# Altium integrated library Texas Instruments Power Management PWM Controller.IntLib: 1227 symbols (part 27 of 49)
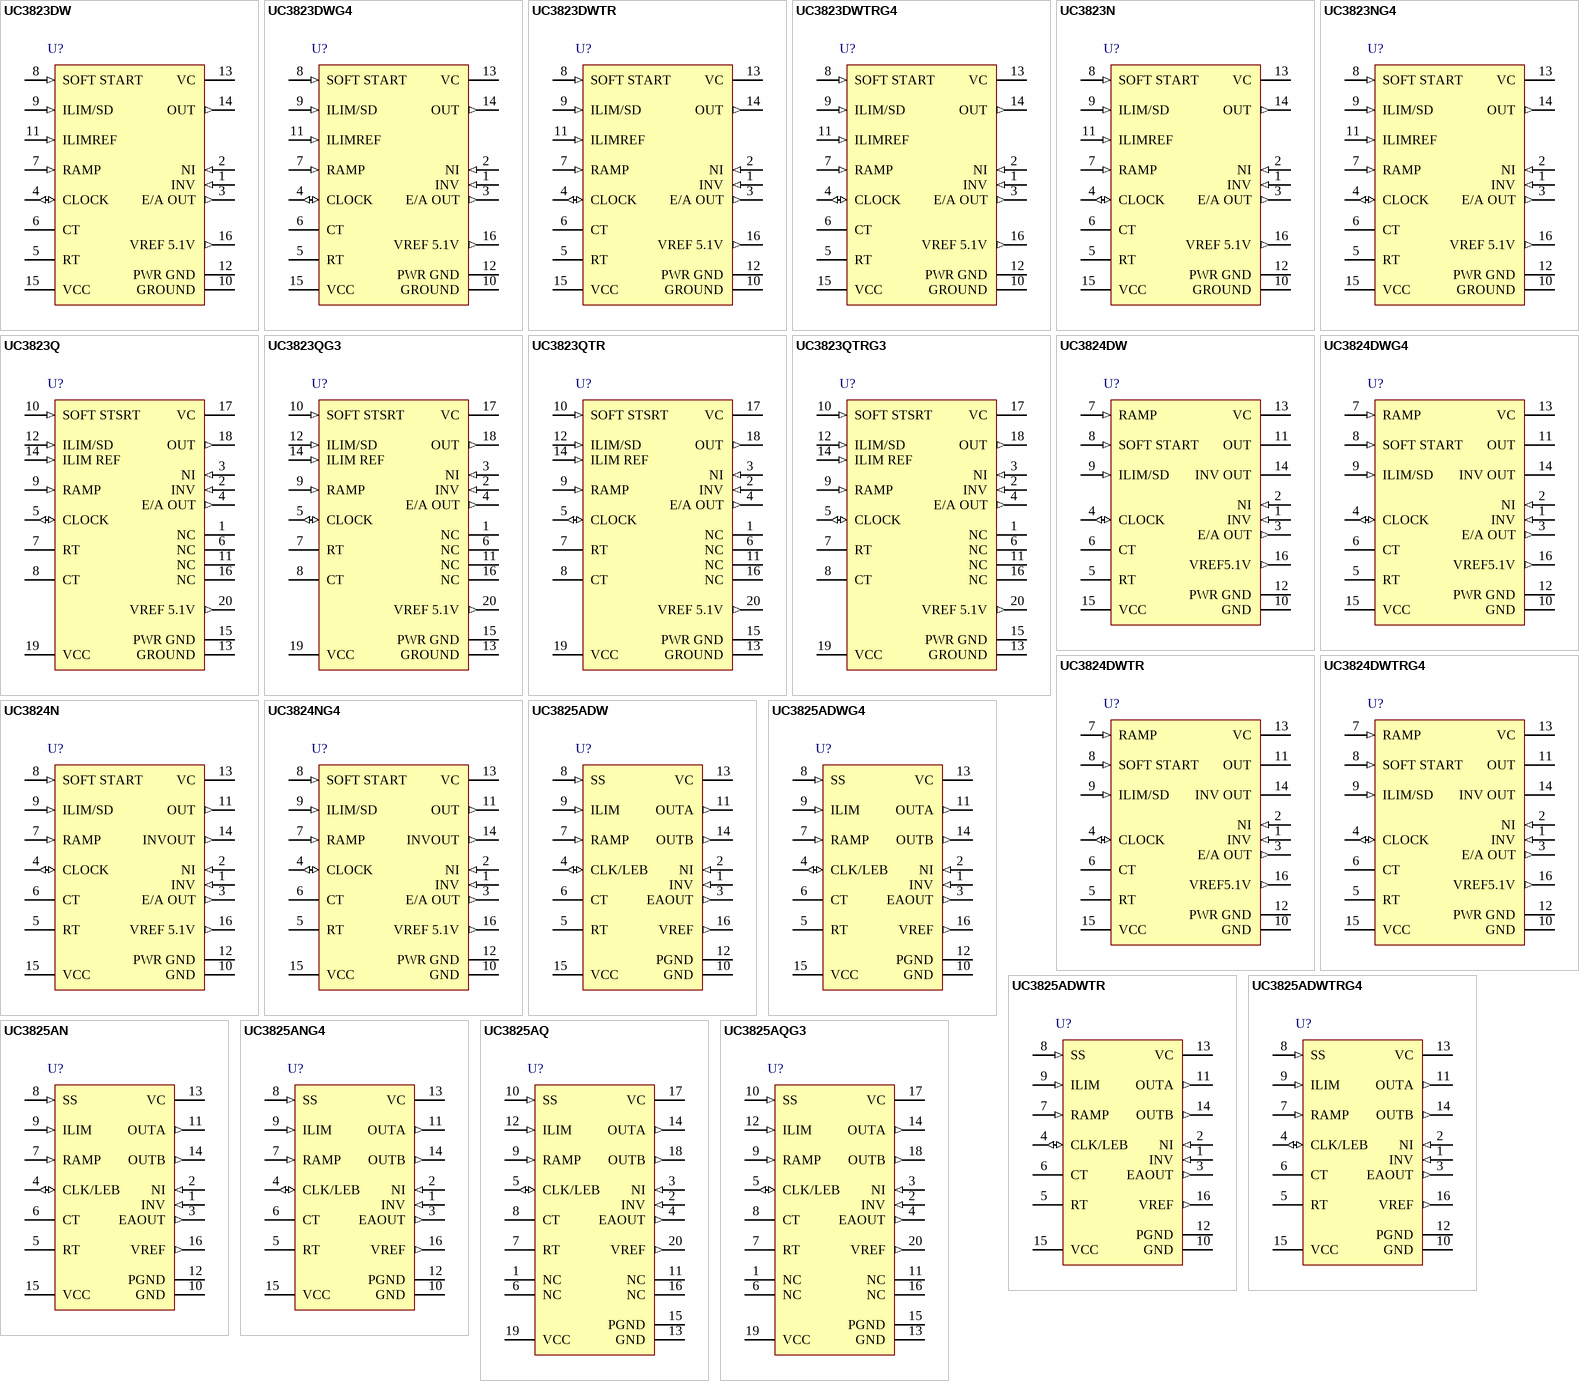
[diagram p69: symbols UC3823DW to UC3825AQG3]

## UC3823DW
designator U?
High Speed PWM Controller with Current, Voltage Control, 100 % Duty Cycle, 0 to +70 degC, 16-pin SOIC (DW), Green (RoHS & no Sb/Br); PartNumber: UC3823DW; Manufacturer: Texas Instruments; Duty Cycle(Max)(%): 100; Frequency(Max)(kHz): 1000; Rating: Catalog; Regulated Outputs(#): 1; Topology: Boost, Buck, Flyback, Forward; UVLO Thresholds On/Off(V): 9.2/8.4; DatasheetVersion: SLUS219B; PackageVersion: revG, Jan-2011; PackageReference: DW16; PackageDescription: 16-Pin Small Outline Integrated Circuit, 10.3 x 7.5 mm, Pitch 1.27 mm Pitch; Supplier 1: Digi-Key; Supplier Part Number 1: 296-11263-5-ND; Supplier 2: Newark; Supplier Part Number 2: 97B1232; Supplier 3: Mouser; Supplier Part Number 3: 595-UC3823DW; Control Method: Current, Voltage; Eco-Plan: Green (RoHS & no Sb/Br); SubFamily: PWM Controller; Mounting Technology: Surface Mount; Code_JEDEC: MS-013-AA; ComponentLink1Description: Datasheet; ComponentLink1URL: http://www.ti.com/general/docs/lit/getliterature.tsp?genericPartNumber=UC3823&fileType=pdf
footprint DW16_N (SOIC, 16-Leads, Body 10.3x7.5mm, Pitch 1.27mm, IPC Medium Density)
footprint DW16_L (SOIC, 16-Leads, Body 10.3x7.5mm, Pitch 1.27mm, IPC High Density)
footprint DW16_M (SOIC, 16-Leads, Body 10.3x7.5mm, Pitch 1.27mm, IPC Low Density)
pins: 1 INV (in), 2 NI (in), 3 E/A OUT (out), 4 CLOCK (io), 5 RT, 6 CT, 7 RAMP (in), 8 SOFT START (in), 9 ILIM/SD (in), 10 GROUND (power), 11 ILIMREF (in), 12 PWR GND (power), 13 VC (power), 14 OUT (out), 15 VCC (power), 16 VREF 5.1V (out)

## UC3823DWG4
designator U?
High Speed PWM Controller with Current, Voltage Control, 100 % Duty Cycle, 0 to +70 degC, 16-pin SOIC (DW), Green (RoHS & no Sb/Br); PartNumber: UC3823DWG4; Manufacturer: Texas Instruments; Duty Cycle(Max)(%): 100; Frequency(Max)(kHz): 1000; Rating: Catalog; Regulated Outputs(#): 1; Topology: Boost, Buck, Flyback, Forward; UVLO Thresholds On/Off(V): 9.2/8.4; DatasheetVersion: SLUS219B; PackageVersion: revG, Jan-2011; PackageReference: DW16; PackageDescription: 16-Pin Small Outline Integrated Circuit, 10.3 x 7.5 mm, Pitch 1.27 mm Pitch; Supplier 1: Digi-Key; Supplier Part Number 1: UC3823DWG4-ND; Supplier 2: Newark; Supplier Part Number 2: 99K4491; Supplier 3: Mouser; Supplier Part Number 3: 595-UC3823DWG4; Control Method: Current, Voltage; Eco-Plan: Green (RoHS & no Sb/Br); SubFamily: PWM Controller; Mounting Technology: Surface Mount; Code_JEDEC: MS-013-AA; ComponentLink1Description: Datasheet; ComponentLink1URL: http://www.ti.com/general/docs/lit/getliterature.tsp?genericPartNumber=UC3823&fileType=pdf
footprint DW16_N (SOIC, 16-Leads, Body 10.3x7.5mm, Pitch 1.27mm, IPC Medium Density)
footprint DW16_L (SOIC, 16-Leads, Body 10.3x7.5mm, Pitch 1.27mm, IPC High Density)
footprint DW16_M (SOIC, 16-Leads, Body 10.3x7.5mm, Pitch 1.27mm, IPC Low Density)
pins: 1 INV (in), 2 NI (in), 3 E/A OUT (out), 4 CLOCK (io), 5 RT, 6 CT, 7 RAMP (in), 8 SOFT START (in), 9 ILIM/SD (in), 10 GROUND (power), 11 ILIMREF (in), 12 PWR GND (power), 13 VC (power), 14 OUT (out), 15 VCC (power), 16 VREF 5.1V (out)

## UC3823DWTR
designator U?
High Speed PWM Controller with Current, Voltage Control, 100 % Duty Cycle, 0 to +70 degC, 16-pin SOIC (DW), Green (RoHS & no Sb/Br); PartNumber: UC3823DWTR; Manufacturer: Texas Instruments; Duty Cycle(Max)(%): 100; Frequency(Max)(kHz): 1000; Rating: Catalog; Regulated Outputs(#): 1; Topology: Boost, Buck, Flyback, Forward; UVLO Thresholds On/Off(V): 9.2/8.4; DatasheetVersion: SLUS219B; PackageVersion: revG, Jan-2011; PackageReference: DW16; PackageDescription: 16-Pin Small Outline Integrated Circuit, 10.3 x 7.5 mm, Pitch 1.27 mm Pitch; Supplier 1: Digi-Key; Supplier Part Number 1: UC3823DWTR-ND; Supplier 2: Newark; Supplier Part Number 2: 77C3241; Supplier 3: Mouser; Supplier Part Number 3: 595-UC3823DWTR; Control Method: Current, Voltage; Eco-Plan: Green (RoHS & no Sb/Br); SubFamily: PWM Controller; Mounting Technology: Surface Mount; Code_JEDEC: MS-013-AA; ComponentLink1Description: Datasheet; ComponentLink1URL: http://www.ti.com/general/docs/lit/getliterature.tsp?genericPartNumber=UC3823&fileType=pdf
footprint DW16_N (SOIC, 16-Leads, Body 10.3x7.5mm, Pitch 1.27mm, IPC Medium Density)
footprint DW16_L (SOIC, 16-Leads, Body 10.3x7.5mm, Pitch 1.27mm, IPC High Density)
footprint DW16_M (SOIC, 16-Leads, Body 10.3x7.5mm, Pitch 1.27mm, IPC Low Density)
pins: 1 INV (in), 2 NI (in), 3 E/A OUT (out), 4 CLOCK (io), 5 RT, 6 CT, 7 RAMP (in), 8 SOFT START (in), 9 ILIM/SD (in), 10 GROUND (power), 11 ILIMREF (in), 12 PWR GND (power), 13 VC (power), 14 OUT (out), 15 VCC (power), 16 VREF 5.1V (out)

## UC3823DWTRG4
designator U?
High Speed PWM Controller with Current, Voltage Control, 100 % Duty Cycle, 0 to +70 degC, 16-pin SOIC (DW), Green (RoHS & no Sb/Br); PartNumber: UC3823DWTRG4; Manufacturer: Texas Instruments; Duty Cycle(Max)(%): 100; Frequency(Max)(kHz): 1000; Rating: Catalog; Regulated Outputs(#): 1; Topology: Boost, Buck, Flyback, Forward; UVLO Thresholds On/Off(V): 9.2/8.4; DatasheetVersion: SLUS219B; PackageVersion: revG, Jan-2011; PackageReference: DW16; PackageDescription: 16-Pin Small Outline Integrated Circuit, 10.3 x 7.5 mm, Pitch 1.27 mm Pitch; Supplier 1: Digi-Key; Supplier Part Number 1: UC3823DWTRG4-ND; Supplier 2: Newark; Supplier Part Number 2: 63K6731; Supplier 3: Mouser; Supplier Part Number 3: 595-UC3823DWTRG4; Control Method: Current, Voltage; Eco-Plan: Green (RoHS & no Sb/Br); SubFamily: PWM Controller; Mounting Technology: Surface Mount; Code_JEDEC: MS-013-AA; ComponentLink1Description: Datasheet; ComponentLink1URL: http://www.ti.com/general/docs/lit/getliterature.tsp?genericPartNumber=UC3823&fileType=pdf
footprint DW16_N (SOIC, 16-Leads, Body 10.3x7.5mm, Pitch 1.27mm, IPC Medium Density)
footprint DW16_L (SOIC, 16-Leads, Body 10.3x7.5mm, Pitch 1.27mm, IPC High Density)
footprint DW16_M (SOIC, 16-Leads, Body 10.3x7.5mm, Pitch 1.27mm, IPC Low Density)
pins: 1 INV (in), 2 NI (in), 3 E/A OUT (out), 4 CLOCK (io), 5 RT, 6 CT, 7 RAMP (in), 8 SOFT START (in), 9 ILIM/SD (in), 10 GROUND (power), 11 ILIMREF (in), 12 PWR GND (power), 13 VC (power), 14 OUT (out), 15 VCC (power), 16 VREF 5.1V (out)

## UC3823N
designator U?
High Speed PWM Controller with Current, Voltage Control, 100 % Duty Cycle, 0 to +70 degC, 16-pin PDIP (N), Green (RoHS & no Sb/Br); PartNumber: UC3823N; Manufacturer: Texas Instruments; Duty Cycle(Max)(%): 100; Frequency(Max)(kHz): 1000; Rating: Catalog; Regulated Outputs(#): 1; Topology: Boost, Buck, Flyback, Forward; UVLO Thresholds On/Off(V): 9.2/8.4; DatasheetVersion: SLUS219B; PackageVersion: revE, Dec-2002; PackageReference: N16; PackageDescription: 16-Pin Plastic Dual-In-Line Package, Row Spacing 7.62 mm, Pitch 2.54 mm; Supplier 1: Digi-Key; Supplier Part Number 1: 296-11653-5-ND; Supplier 2: Farnell; Supplier Part Number 2: 1534740; Supplier 3: Newark; Supplier Part Number 3: 77C3242; Supplier 4: Mouser; Supplier Part Number 4: 595-UC3823N; Control Method: Current, Voltage; Eco-Plan: Green (RoHS & no Sb/Br); SubFamily: PWM Controller; Mounting Technology: Through Hole; Code_JEDEC: MS-001*; ComponentLink1Description: Datasheet; ComponentLink1URL: http://www.ti.com/general/docs/lit/getliterature.tsp?genericPartNumber=UC3823&fileType=pdf
footprint N16 (DIP, 16-Leads, Row Spacing 7.62mm, Pitch 2.54mm, Body 19.3x6.4mm)
pins: 1 INV (in), 2 NI (in), 3 E/A OUT (out), 4 CLOCK (io), 5 RT, 6 CT, 7 RAMP (in), 8 SOFT START (in), 9 ILIM/SD (in), 10 GROUND (power), 11 ILIMREF (in), 12 PWR GND (power), 13 VC (power), 14 OUT (out), 15 VCC (power), 16 VREF 5.1V (out)

## UC3823NG4
designator U?
High Speed PWM Controller with Current, Voltage Control, 100 % Duty Cycle, 0 to +70 degC, 16-pin PDIP (N), Green (RoHS & no Sb/Br); PartNumber: UC3823NG4; Manufacturer: Texas Instruments; Duty Cycle(Max)(%): 100; Frequency(Max)(kHz): 1000; Rating: Catalog; Regulated Outputs(#): 1; Topology: Boost, Buck, Flyback, Forward; UVLO Thresholds On/Off(V): 9.2/8.4; DatasheetVersion: SLUS219B; PackageVersion: revE, Dec-2002; PackageReference: N16; PackageDescription: 16-Pin Plastic Dual-In-Line Package, Row Spacing 7.62 mm, Pitch 2.54 mm; Supplier 1: Digi-Key; Supplier Part Number 1: UC3823NG4-ND; Supplier 2: Farnell; Supplier Part Number 2: 1234764; Supplier 3: Newark; Supplier Part Number 3: 13M3401; Supplier 4: Newark; Supplier Part Number 4: 80K3540; Supplier 5: Mouser; Supplier Part Number 5: 595-UC3823NG4; Control Method: Current, Voltage; Eco-Plan: Green (RoHS & no Sb/Br); SubFamily: PWM Controller; Mounting Technology: Through Hole; Code_JEDEC: MS-001*; ComponentLink1Description: Datasheet; ComponentLink1URL: http://www.ti.com/general/docs/lit/getliterature.tsp?genericPartNumber=UC3823&fileType=pdf
footprint N16 (DIP, 16-Leads, Row Spacing 7.62mm, Pitch 2.54mm, Body 19.3x6.4mm)
pins: 1 INV (in), 2 NI (in), 3 E/A OUT (out), 4 CLOCK (io), 5 RT, 6 CT, 7 RAMP (in), 8 SOFT START (in), 9 ILIM/SD (in), 10 GROUND (power), 11 ILIMREF (in), 12 PWR GND (power), 13 VC (power), 14 OUT (out), 15 VCC (power), 16 VREF 5.1V (out)

## UC3823Q
designator U?
High Speed PWM Controller with Current, Voltage Control, 100 % Duty Cycle, 0 to +70 degC, 20-pin PLCC (FN), Green (RoHS & no Sb/Br); PartNumber: UC3823Q; Manufacturer: Texas Instruments; Duty Cycle(Max)(%): 100; Frequency(Max)(kHz): 1000; Rating: Catalog; Regulated Outputs(#): 1; Topology: Boost, Buck, Flyback, Forward; UVLO Thresholds On/Off(V): 9.2/8.4; DatasheetVersion: SLUS219B; PackageVersion: revB, Mar-1995; PackageReference: FN20; PackageDescription: 20-Pin Plastic Leaded Chip Carrier, 1.27 mm Pitch; Supplier 1: Digi-Key; Supplier Part Number 1: 296-11264-5-ND; Supplier 2: Newark; Supplier Part Number 2: 77C3243; Supplier 3: Mouser; Supplier Part Number 3: 595-UC3823Q; Control Method: Current, Voltage; Eco-Plan: Green (RoHS & no Sb/Br); SubFamily: PWM Controller; Mounting Technology: Surface Mount; Code_JEDEC: MS-018; ComponentLink1Description: Datasheet; ComponentLink1URL: http://www.ti.com/general/docs/lit/getliterature.tsp?genericPartNumber=UC3823&fileType=pdf
footprint FN20_N (Leaded Chip Carrier, 20-Leads, Body 9x9mm, Pitch 1.27mm, IPC Medium Density)
footprint FN20_L (Leaded Chip Carrier, 20-Leads, Body 9x9mm, Pitch 1.27mm, IPC High Density)
footprint FN20_M (Leaded Chip Carrier, 20-Leads, Body 9x9mm, Pitch 1.27mm, IPC Low Density)
pins: 1 NC, 2 INV (in), 3 NI (in), 4 E/A OUT (out), 5 CLOCK (io), 6 NC, 7 RT, 8 CT, 9 RAMP (in), 10 SOFT STSRT (in), 11 NC, 12 ILIM/SD (in), 13 GROUND (power), 14 ILIM REF (in), 15 PWR GND (power), 16 NC, 17 VC (power), 18 OUT (out), 19 VCC (power), 20 VREF 5.1V (out)

## UC3823QG3
designator U?
High Speed PWM Controller with Current, Voltage Control, 100 % Duty Cycle, 0 to +70 degC, 20-pin PLCC (FN), Green (RoHS & no Sb/Br); PartNumber: UC3823QG3; Manufacturer: Texas Instruments; Duty Cycle(Max)(%): 100; Frequency(Max)(kHz): 1000; Rating: Catalog; Regulated Outputs(#): 1; Topology: Boost, Buck, Flyback, Forward; UVLO Thresholds On/Off(V): 9.2/8.4; DatasheetVersion: SLUS219B; PackageVersion: revB, Mar-1995; PackageReference: FN20; PackageDescription: 20-Pin Plastic Leaded Chip Carrier, 1.27 mm Pitch; Supplier 1: Digi-Key; Supplier Part Number 1: UC3823QG3-ND; Supplier 2: Newark; Supplier Part Number 2: 70K6008; Supplier 3: Mouser; Supplier Part Number 3: 595-UC3823QG3; Control Method: Current, Voltage; Eco-Plan: Green (RoHS & no Sb/Br); SubFamily: PWM Controller; Mounting Technology: Surface Mount; Code_JEDEC: MS-018; ComponentLink1Description: Datasheet; ComponentLink1URL: http://www.ti.com/general/docs/lit/getliterature.tsp?genericPartNumber=UC3823&fileType=pdf
footprint FN20_N (Leaded Chip Carrier, 20-Leads, Body 9x9mm, Pitch 1.27mm, IPC Medium Density)
footprint FN20_L (Leaded Chip Carrier, 20-Leads, Body 9x9mm, Pitch 1.27mm, IPC High Density)
footprint FN20_M (Leaded Chip Carrier, 20-Leads, Body 9x9mm, Pitch 1.27mm, IPC Low Density)
pins: 1 NC, 2 INV (in), 3 NI (in), 4 E/A OUT (out), 5 CLOCK (io), 6 NC, 7 RT, 8 CT, 9 RAMP (in), 10 SOFT STSRT (in), 11 NC, 12 ILIM/SD (in), 13 GROUND (power), 14 ILIM REF (in), 15 PWR GND (power), 16 NC, 17 VC (power), 18 OUT (out), 19 VCC (power), 20 VREF 5.1V (out)

## UC3823QTR
designator U?
High Speed PWM Controller with Current, Voltage Control, 100 % Duty Cycle, 0 to +70 degC, 20-pin PLCC (FN), Green (RoHS & no Sb/Br); PartNumber: UC3823QTR; Manufacturer: Texas Instruments; Duty Cycle(Max)(%): 100; Frequency(Max)(kHz): 1000; Rating: Catalog; Regulated Outputs(#): 1; Topology: Boost, Buck, Flyback, Forward; UVLO Thresholds On/Off(V): 9.2/8.4; DatasheetVersion: SLUS219B; PackageVersion: revB, Mar-1995; PackageReference: FN20; PackageDescription: 20-Pin Plastic Leaded Chip Carrier, 1.27 mm Pitch; Supplier 1: Digi-Key; Supplier Part Number 1: UC3823QTR-ND; Supplier 2: Newark; Supplier Part Number 2: 77C3244; Supplier 3: Mouser; Supplier Part Number 3: 595-UC3823QTR; Control Method: Current, Voltage; Eco-Plan: Green (RoHS & no Sb/Br); SubFamily: PWM Controller; Mounting Technology: Surface Mount; Code_JEDEC: MS-018; ComponentLink1Description: Datasheet; ComponentLink1URL: http://www.ti.com/general/docs/lit/getliterature.tsp?genericPartNumber=UC3823&fileType=pdf
footprint FN20_N (Leaded Chip Carrier, 20-Leads, Body 9x9mm, Pitch 1.27mm, IPC Medium Density)
footprint FN20_L (Leaded Chip Carrier, 20-Leads, Body 9x9mm, Pitch 1.27mm, IPC High Density)
footprint FN20_M (Leaded Chip Carrier, 20-Leads, Body 9x9mm, Pitch 1.27mm, IPC Low Density)
pins: 1 NC, 2 INV (in), 3 NI (in), 4 E/A OUT (out), 5 CLOCK (io), 6 NC, 7 RT, 8 CT, 9 RAMP (in), 10 SOFT STSRT (in), 11 NC, 12 ILIM/SD (in), 13 GROUND (power), 14 ILIM REF (in), 15 PWR GND (power), 16 NC, 17 VC (power), 18 OUT (out), 19 VCC (power), 20 VREF 5.1V (out)

## UC3823QTRG3
designator U?
High Speed PWM Controller with Current, Voltage Control, 100 % Duty Cycle, 0 to +70 degC, 20-pin PLCC (FN), Green (RoHS & no Sb/Br); PartNumber: UC3823QTRG3; Manufacturer: Texas Instruments; Duty Cycle(Max)(%): 100; Frequency(Max)(kHz): 1000; Rating: Catalog; Regulated Outputs(#): 1; Topology: Boost, Buck, Flyback, Forward; UVLO Thresholds On/Off(V): 9.2/8.4; DatasheetVersion: SLUS219B; PackageVersion: revB, Mar-1995; PackageReference: FN20; PackageDescription: 20-Pin Plastic Leaded Chip Carrier, 1.27 mm Pitch; Supplier 1: Digi-Key; Supplier Part Number 1: UC3823QTRG3-ND; Supplier 2: Newark; Supplier Part Number 2: 70K6009; Supplier 3: Mouser; Supplier Part Number 3: 595-UC3823QTRG3; Control Method: Current,Voltage; Eco-Plan: Green (RoHS & no Sb/Br); SubFamily: PWM Controller; Mounting Technology: Surface Mount; Code_JEDEC: MS-018; ComponentLink1Description: Datasheet; ComponentLink1URL: http://www.ti.com/general/docs/lit/getliterature.tsp?genericPartNumber=UC3823&fileType=pdf
footprint FN20_N (Leaded Chip Carrier, 20-Leads, Body 9x9mm, Pitch 1.27mm, IPC Medium Density)
footprint FN20_L (Leaded Chip Carrier, 20-Leads, Body 9x9mm, Pitch 1.27mm, IPC High Density)
footprint FN20_M (Leaded Chip Carrier, 20-Leads, Body 9x9mm, Pitch 1.27mm, IPC Low Density)
pins: 1 NC, 2 INV (in), 3 NI (in), 4 E/A OUT (out), 5 CLOCK (io), 6 NC, 7 RT, 8 CT, 9 RAMP (in), 10 SOFT STSRT (in), 11 NC, 12 ILIM/SD (in), 13 GROUND (power), 14 ILIM REF (in), 15 PWR GND (power), 16 NC, 17 VC (power), 18 OUT (out), 19 VCC (power), 20 VREF 5.1V (out)

## UC3824DW
designator U?
High Speed PWM Controller with Current, Voltage Control, 100 % Duty Cycle, 0 to +70 degC, 16-pin SOIC (DW), Green (RoHS & no Sb/Br); PartNumber: UC3824DW; Manufacturer: Texas Instruments; Duty Cycle(Max)(%): 100; Frequency(Max)(kHz): 1000; Rating: Catalog; Regulated Outputs(#): 2; Topology: Boost, Buck; UVLO Thresholds On/Off(V): 9.2/8.4; DatasheetVersion: SLUS326A; PackageVersion: revG, Jan-2011; PackageReference: DW16; PackageDescription: 16-Pin Small Outline Integrated Circuit, 10.3 x 7.5 mm, Pitch 1.27 mm Pitch; Supplier 1: Digi-Key; Supplier Part Number 1: 296-11265-5-ND; Supplier 2: Newark; Supplier Part Number 2: 77C3245; Supplier 3: Mouser; Supplier Part Number 3: 595-UC3824DW; Control Method: Current, Voltage; Eco-Plan: Green (RoHS & no Sb/Br); SubFamily: PWM Controller; Mounting Technology: Surface Mount; Code_JEDEC: MS-013-AA; ComponentLink1Description: Datasheet; ComponentLink1URL: http://www.ti.com/general/docs/lit/getliterature.tsp?genericPartNumber=UC3824&fileType=pdf
footprint DW16_N (SOIC, 16-Leads, Body 10.3x7.5mm, Pitch 1.27mm, IPC Medium Density)
footprint DW16_L (SOIC, 16-Leads, Body 10.3x7.5mm, Pitch 1.27mm, IPC High Density)
footprint DW16_M (SOIC, 16-Leads, Body 10.3x7.5mm, Pitch 1.27mm, IPC Low Density)
pins: 1 INV (in), 2 NI (in), 3 E/A OUT (out), 4 CLOCK (io), 5 RT, 6 CT, 7 RAMP (in), 8 SOFT START (in), 9 ILIM/SD (in), 10 GND (power), 11 OUT (hiz), 12 PWR GND (power), 13 VC (power), 14 INV OUT (hiz), 15 VCC (power), 16 VREF5.1V (out)

## UC3824DWG4
designator U?
High Speed PWM Controller with Current, Voltage Control, 100 % Duty Cycle, 0 to +70 degC, 16-pin SOIC (DW), Green (RoHS & no Sb/Br); PartNumber: UC3824DWG4; Manufacturer: Texas Instruments; Duty Cycle(Max)(%): 100; Frequency(Max)(kHz): 1000; Rating: Catalog; Regulated Outputs(#): 2; Topology: Boost, Buck; UVLO Thresholds On/Off(V): 9.2/8.4; DatasheetVersion: SLUS326A; PackageVersion: revG, Jan-2011; PackageReference: DW16; PackageDescription: 16-Pin Small Outline Integrated Circuit, 10.3 x 7.5 mm, Pitch 1.27 mm Pitch; Supplier 1: Digi-Key; Supplier Part Number 1: UC3824DWG4-ND; Supplier 2: Newark; Supplier Part Number 2: 63K6732; Supplier 3: Mouser; Supplier Part Number 3: 595-UC3824DWG4; Control Method: Current, Voltage; Eco-Plan: Green (RoHS & no Sb/Br); SubFamily: PWM Controller; Mounting Technology: Surface Mount; Code_JEDEC: MS-013-AA; ComponentLink1Description: Datasheet; ComponentLink1URL: http://www.ti.com/general/docs/lit/getliterature.tsp?genericPartNumber=UC3824&fileType=pdf
footprint DW16_N (SOIC, 16-Leads, Body 10.3x7.5mm, Pitch 1.27mm, IPC Medium Density)
footprint DW16_L (SOIC, 16-Leads, Body 10.3x7.5mm, Pitch 1.27mm, IPC High Density)
footprint DW16_M (SOIC, 16-Leads, Body 10.3x7.5mm, Pitch 1.27mm, IPC Low Density)
pins: 1 INV (in), 2 NI (in), 3 E/A OUT (out), 4 CLOCK (io), 5 RT, 6 CT, 7 RAMP (in), 8 SOFT START (in), 9 ILIM/SD (in), 10 GND (power), 11 OUT (hiz), 12 PWR GND (power), 13 VC (power), 14 INV OUT (hiz), 15 VCC (power), 16 VREF5.1V (out)

## UC3824DWTR
designator U?
High Speed PWM Controller with Current, Voltage Control, 100 % Duty Cycle, 0 to +70 degC, 16-pin SOIC (DW), Green (RoHS & no Sb/Br); PartNumber: UC3824DWTR; Manufacturer: Texas Instruments; Duty Cycle(Max)(%): 100; Frequency(Max)(kHz): 1000; Rating: Catalog; Regulated Outputs(#): 2; Topology: Boost, Buck; UVLO Thresholds On/Off(V): 9.2/8.4; DatasheetVersion: SLUS326A; PackageVersion: revG, Jan-2011; PackageReference: DW16; PackageDescription: 16-Pin Small Outline Integrated Circuit, 10.3 x 7.5 mm, Pitch 1.27 mm Pitch; Supplier 1: Digi-Key; Supplier Part Number 1: UC3824DWTR-ND; Supplier 2: Newark; Supplier Part Number 2: 77C3246; Supplier 3: Mouser; Supplier Part Number 3: 595-UC3824DWTR; Control Method: Current, Voltage; Eco-Plan: Green (RoHS & no Sb/Br); SubFamily: PWM Controller; Mounting Technology: Surface Mount; Code_JEDEC: MS-013-AA; ComponentLink1Description: Datasheet; ComponentLink1URL: http://www.ti.com/general/docs/lit/getliterature.tsp?genericPartNumber=UC3824&fileType=pdf
footprint DW16_N (SOIC, 16-Leads, Body 10.3x7.5mm, Pitch 1.27mm, IPC Medium Density)
footprint DW16_L (SOIC, 16-Leads, Body 10.3x7.5mm, Pitch 1.27mm, IPC High Density)
footprint DW16_M (SOIC, 16-Leads, Body 10.3x7.5mm, Pitch 1.27mm, IPC Low Density)
pins: 1 INV (in), 2 NI (in), 3 E/A OUT (out), 4 CLOCK (io), 5 RT, 6 CT, 7 RAMP (in), 8 SOFT START (in), 9 ILIM/SD (in), 10 GND (power), 11 OUT (hiz), 12 PWR GND (power), 13 VC (power), 14 INV OUT (hiz), 15 VCC (power), 16 VREF5.1V (out)

## UC3824DWTRG4
designator U?
High Speed PWM Controller with Current, Voltage Control, 100 % Duty Cycle, 0 to +70 degC, 16-pin SOIC (DW), Green (RoHS & no Sb/Br); PartNumber: UC3824DWTRG4; Manufacturer: Texas Instruments; Duty Cycle(Max)(%): 100; Frequency(Max)(kHz): 1000; Rating: Catalog; Regulated Outputs(#): 2; Topology: Boost, Buck; UVLO Thresholds On/Off(V): 9.2/8.4; DatasheetVersion: SLUS326A; PackageVersion: revG, Jan-2011; PackageReference: DW16; PackageDescription: 16-Pin Small Outline Integrated Circuit, 10.3 x 7.5 mm, Pitch 1.27 mm Pitch; Supplier 1: Digi-Key; Supplier Part Number 1: UC3824DWTRG4-ND; Supplier 2: Newark; Supplier Part Number 2: 63K6733; Supplier 3: Mouser; Supplier Part Number 3: 595-UC3824DWTRG4; Control Method: Current, Voltage; Eco-Plan: Green (RoHS & no Sb/Br); SubFamily: PWM Controller; Mounting Technology: Surface Mount; Code_JEDEC: MS-013-AA; ComponentLink1Description: Datasheet; ComponentLink1URL: http://www.ti.com/general/docs/lit/getliterature.tsp?genericPartNumber=UC3824&fileType=pdf
footprint DW16_N (SOIC, 16-Leads, Body 10.3x7.5mm, Pitch 1.27mm, IPC Medium Density)
footprint DW16_L (SOIC, 16-Leads, Body 10.3x7.5mm, Pitch 1.27mm, IPC High Density)
footprint DW16_M (SOIC, 16-Leads, Body 10.3x7.5mm, Pitch 1.27mm, IPC Low Density)
pins: 1 INV (in), 2 NI (in), 3 E/A OUT (out), 4 CLOCK (io), 5 RT, 6 CT, 7 RAMP (in), 8 SOFT START (in), 9 ILIM/SD (in), 10 GND (power), 11 OUT (hiz), 12 PWR GND (power), 13 VC (power), 14 INV OUT (hiz), 15 VCC (power), 16 VREF5.1V (out)

## UC3824N
designator U?
High Speed PWM Controller with Current, Voltage Control, 100 % Duty Cycle, 0 to +70 degC, 16-pin PDIP (N), Green (RoHS & no Sb/Br); PartNumber: UC3824N; Manufacturer: Texas Instruments; Duty Cycle(Max)(%): 100; Frequency(Max)(kHz): 1000; Rating: Catalog; Regulated Outputs(#): 2; Topology: Boost, Buck; UVLO Thresholds On/Off(V): 9.2/8.4; DatasheetVersion: SLUS326A; PackageVersion: revE, Dec-2002; PackageReference: N16; PackageDescription: 16-Pin Plastic Dual-In-Line Package, Row Spacing 7.62 mm, Pitch 2.54 mm; Supplier 1: Digi-Key; Supplier Part Number 1: 296-11266-5-ND; Supplier 2: Newark; Supplier Part Number 2: 70C5715; Supplier 3: Mouser; Supplier Part Number 3: 595-UC3824N; Control Method: Current, Voltage; Eco-Plan: Green (RoHS & no Sb/Br); SubFamily: PWM Controller; Mounting Technology: Through Hole; Code_JEDEC: MS-001*; ComponentLink1Description: Datasheet; ComponentLink1URL: http://www.ti.com/general/docs/lit/getliterature.tsp?genericPartNumber=UC3824&fileType=pdf
footprint N16 (DIP, 16-Leads, Row Spacing 7.62mm, Pitch 2.54mm, Body 19.3x6.4mm)
pins: 1 INV (in), 2 NI (in), 3 E/A OUT (out), 4 CLOCK (io), 5 RT, 6 CT, 7 RAMP (in), 8 SOFT START (in), 9 ILIM/SD (in), 10 GND (power), 11 OUT (out), 12 PWR GND (power), 13 VC (power), 14 INVOUT (out), 15 VCC (power), 16 VREF 5.1V (out)

## UC3824NG4
designator U?
High Speed PWM Controller with Current, Voltage Control, 100 % Duty Cycle, 0 to +70 degC, 16-pin PDIP (N), Green (RoHS & no Sb/Br); PartNumber: UC3824NG4; Manufacturer: Texas Instruments; Duty Cycle(Max)(%): 100; Frequency(Max)(kHz): 1000; Rating: Catalog; Regulated Outputs(#): 2; Topology: Boost, Buck; UVLO Thresholds On/Off(V): 9.2/8.4; DatasheetVersion: SLUS326A; PackageVersion: revE, Dec-2002; PackageReference: N16; PackageDescription: 16-Pin Plastic Dual-In-Line Package, Row Spacing 7.62 mm, Pitch 2.54 mm; Supplier 1: Digi-Key; Supplier Part Number 1: UC3824NG4-ND; Supplier 2: Newark; Supplier Part Number 2: 66K4920; Supplier 3: Mouser; Supplier Part Number 3: 595-UC3824NG4; Control Method: Current,Voltage; Eco-Plan: Green (RoHS & no Sb/Br); SubFamily: PWM Controller; Mounting Technology: Through Hole; Code_JEDEC: MS-001*; ComponentLink1Description: Datasheet; ComponentLink1URL: http://www.ti.com/general/docs/lit/getliterature.tsp?genericPartNumber=UC3824&fileType=pdf
footprint N16 (DIP, 16-Leads, Row Spacing 7.62mm, Pitch 2.54mm, Body 19.3x6.4mm)
pins: 1 INV (in), 2 NI (in), 3 E/A OUT (out), 4 CLOCK (io), 5 RT, 6 CT, 7 RAMP (in), 8 SOFT START (in), 9 ILIM/SD (in), 10 GND (power), 11 OUT (out), 12 PWR GND (power), 13 VC (power), 14 INVOUT (out), 15 VCC (power), 16 VREF 5.1V (out)

## UC3825ADW
designator U?
High-Speed PWM Controller with Current, Voltage Control, 50 % Duty Cycle, 0 to +70 degC, 16-pin SOIC (DW), Green (RoHS & no Sb/Br); PartNumber: UC3825ADW; Manufacturer: Texas Instruments; Duty Cycle(Max)(%): 50; Frequency(Max)(kHz): 1000; Rating: Catalog; Regulated Outputs(#): 2; Topology: Boost, Buck, Flyback, Forward, Full-Bridge, Half-Bridge, Push-Pull; UVLO Thresholds On/Off(V): 16/10; DatasheetVersion: SLUS334E; PackageVersion: revG, Jan-2011; PackageReference: DW16; PackageDescription: 16-Pin Small Outline Integrated Circuit, 10.3 x 7.5 mm, Pitch 1.27 mm Pitch; Supplier 1: Digi-Key; Supplier Part Number 1: 296-2517-5-ND; Supplier 2: Farnell; Supplier Part Number 2: 8462410; Supplier 3: Newark; Supplier Part Number 3: 77C3247; Supplier 4: Mouser; Supplier Part Number 4: 595-UC3825ADW; Control Method: Current, Voltage; Eco-Plan: Green (RoHS & no Sb/Br); SubFamily: PWM Controller; Mounting Technology: Surface Mount; Code_JEDEC: MS-013-AA; ComponentLink1Description: Datasheet; ComponentLink1URL: http://www.ti.com/general/docs/lit/getliterature.tsp?genericPartNumber=UC3825A&fileType=pdf
footprint DW16_N (SOIC, 16-Leads, Body 10.3x7.5mm, Pitch 1.27mm, IPC Medium Density)
footprint DW16_L (SOIC, 16-Leads, Body 10.3x7.5mm, Pitch 1.27mm, IPC High Density)
footprint DW16_M (SOIC, 16-Leads, Body 10.3x7.5mm, Pitch 1.27mm, IPC Low Density)
pins: 1 INV (in) "Inverting input to the error amplifier", 2 NI (in) "Non-inverting input to the error amplifier", 3 EAOUT (out) "Output of the error amplifier for compensation", 4 CLK/LEB (io) "Output of the internal oscillator", 5 RT "Timing resistor connection pin for oscillator frequency programming", 6 CT "Timing capacitor connection pin for oscillator frequency programming. The timing capacitor should be connected to the device ground using minimal trace length.", 7 RAMP (in) "Non-inverting input to the PWM comparator with 1.25-V internal input offset. In voltage mode operation, this serves as the input voltage feed-forward function by using the CT ramp. In peak current mode operation, this serves (See Datasheet)", 8 SS (in) "Soft-start input pin which also doubles as the maximum duty cycle clamp.", 9 ILIM (in) "Input to the current limit comparator", 10 GND (power) "Analog ground return pin", 11 OUTA (out) "High current totem pole output A of the on-chip drive stage.", 12 PGND (power) "Ground return pin for the output driver stage", 13 VC (power) "Power supply pin for the output stage. This pin should be bypassed with a 0.1-uF monolithic ceramic low ESL capacitor with minimal trace lengths.", 14 OUTB (out) "High current totem pole output B of the on-chip drive stage.", 15 VCC (power) "Power supply pin for the device. This pin should be bypassed with a 0.1-uF monolithic ceramic low ESL capacitor with minimal trace lengths", 16 VREF (out) "5.1-V reference. For stability, the reference should be bypassed with a 0.1-uF monolithic ceramic low ESL capacitor and minimal trace length to the ground plane."

## UC3825ADWG4
designator U?
High-Speed PWM Controller with Current, Voltage Control, 50 % Duty Cycle, 0 to +70 degC, 16-pin SOIC (DW), Green (RoHS & no Sb/Br); PartNumber: UC3825ADWG4; Manufacturer: Texas Instruments; Duty Cycle(Max)(%): 50; Frequency(Max)(kHz): 1000; Rating: Catalog; Regulated Outputs(#): 2; Topology: Boost, Buck, Flyback, Forward, Full-Bridge, Half-Bridge, Push-Pull; UVLO Thresholds On/Off(V): 16/10; DatasheetVersion: SLUS334E; PackageVersion: revG, Jan-2011; PackageReference: DW16; PackageDescription: 16-Pin Small Outline Integrated Circuit, 10.3 x 7.5 mm, Pitch 1.27 mm Pitch; Supplier 1: Digi-Key; Supplier Part Number 1: UC3825ADWG4-ND; Supplier 2: Newark; Supplier Part Number 2: 73K9705; Supplier 3: Mouser; Supplier Part Number 3: 595-UC3825ADWG4; Control Method: Current, Voltage; Eco-Plan: Green (RoHS & no Sb/Br); SubFamily: PWM Controller; Mounting Technology: Surface Mount; Code_JEDEC: MS-013-AA; ComponentLink1Description: Datasheet; ComponentLink1URL: http://www.ti.com/general/docs/lit/getliterature.tsp?genericPartNumber=UC3825A&fileType=pdf
footprint DW16_N (SOIC, 16-Leads, Body 10.3x7.5mm, Pitch 1.27mm, IPC Medium Density)
footprint DW16_L (SOIC, 16-Leads, Body 10.3x7.5mm, Pitch 1.27mm, IPC High Density)
footprint DW16_M (SOIC, 16-Leads, Body 10.3x7.5mm, Pitch 1.27mm, IPC Low Density)
pins: 1 INV (in) "Inverting input to the error amplifier", 2 NI (in) "Non-inverting input to the error amplifier", 3 EAOUT (out) "Output of the error amplifier for compensation", 4 CLK/LEB (io) "Output of the internal oscillator", 5 RT "Timing resistor connection pin for oscillator frequency programming", 6 CT "Timing capacitor connection pin for oscillator frequency programming. The timing capacitor should be connected to the device ground using minimal trace length.", 7 RAMP (in) "Non-inverting input to the PWM comparator with 1.25-V internal input offset. In voltage mode operation, this serves as the input voltage feed-forward function by using the CT ramp. In peak current mode operation, this serves (See Datasheet)", 8 SS (in) "Soft-start input pin which also doubles as the maximum duty cycle clamp.", 9 ILIM (in) "Input to the current limit comparator", 10 GND (power) "Analog ground return pin", 11 OUTA (out) "High current totem pole output A of the on-chip drive stage.", 12 PGND (power) "Ground return pin for the output driver stage", 13 VC (power) "Power supply pin for the output stage. This pin should be bypassed with a 0.1-uF monolithic ceramic low ESL capacitor with minimal trace lengths.", 14 OUTB (out) "High current totem pole output B of the on-chip drive stage.", 15 VCC (power) "Power supply pin for the device. This pin should be bypassed with a 0.1-uF monolithic ceramic low ESL capacitor with minimal trace lengths", 16 VREF (out) "5.1-V reference. For stability, the reference should be bypassed with a 0.1-uF monolithic ceramic low ESL capacitor and minimal trace length to the ground plane."

## UC3825ADWTR
designator U?
High-Speed PWM Controller with Current, Voltage Control, 50 % Duty Cycle, 0 to +70 degC, 16-pin SOIC (DW), Green (RoHS & no Sb/Br); PartNumber: UC3825ADWTR; Manufacturer: Texas Instruments; Duty Cycle(Max)(%): 50; Frequency(Max)(kHz): 1000; Rating: Catalog; Regulated Outputs(#): 2; Topology: Boost, Buck, Flyback, Forward, Full-Bridge, Half-Bridge, Push-Pull; UVLO Thresholds On/Off(V): 16/10; DatasheetVersion: SLUS334E; PackageVersion: revG, Jan-2011; PackageReference: DW16; PackageDescription: 16-Pin Small Outline Integrated Circuit, 10.3 x 7.5 mm, Pitch 1.27 mm Pitch; Supplier 1: Digi-Key; Supplier Part Number 1: UC3825ADWTR-ND; Supplier 2: Newark; Supplier Part Number 2: 77C3248; Supplier 3: Mouser; Supplier Part Number 3: 595-UC3825ADWTR; Control Method: Current, Voltage; Eco-Plan: Green (RoHS & no Sb/Br); SubFamily: PWM Controller; Mounting Technology: Surface Mount; Code_JEDEC: MS-013-AA; ComponentLink1Description: Datasheet; ComponentLink1URL: http://www.ti.com/general/docs/lit/getliterature.tsp?genericPartNumber=UC3825A&fileType=pdf
footprint DW16_N (SOIC, 16-Leads, Body 10.3x7.5mm, Pitch 1.27mm, IPC Medium Density)
footprint DW16_L (SOIC, 16-Leads, Body 10.3x7.5mm, Pitch 1.27mm, IPC High Density)
footprint DW16_M (SOIC, 16-Leads, Body 10.3x7.5mm, Pitch 1.27mm, IPC Low Density)
pins: 1 INV (in) "Inverting input to the error amplifier", 2 NI (in) "Non-inverting input to the error amplifier", 3 EAOUT (out) "Output of the error amplifier for compensation", 4 CLK/LEB (io) "Output of the internal oscillator", 5 RT "Timing resistor connection pin for oscillator frequency programming", 6 CT "Timing capacitor connection pin for oscillator frequency programming. The timing capacitor should be connected to the device ground using minimal trace length.", 7 RAMP (in) "Non-inverting input to the PWM comparator with 1.25-V internal input offset. In voltage mode operation, this serves as the input voltage feed-forward function by using the CT ramp. In peak current mode operation, this serves (See Datasheet)", 8 SS (in) "Soft-start input pin which also doubles as the maximum duty cycle clamp.", 9 ILIM (in) "Input to the current limit comparator", 10 GND (power) "Analog ground return pin", 11 OUTA (out) "High current totem pole output A of the on-chip drive stage.", 12 PGND (power) "Ground return pin for the output driver stage", 13 VC (power) "Power supply pin for the output stage. This pin should be bypassed with a 0.1-uF monolithic ceramic low ESL capacitor with minimal trace lengths.", 14 OUTB (out) "High current totem pole output B of the on-chip drive stage.", 15 VCC (power) "Power supply pin for the device. This pin should be bypassed with a 0.1-uF monolithic ceramic low ESL capacitor with minimal trace lengths", 16 VREF (out) "5.1-V reference. For stability, the reference should be bypassed with a 0.1-uF monolithic ceramic low ESL capacitor and minimal trace length to the ground plane."

## UC3825ADWTRG4
designator U?
High-Speed PWM Controller with Current, Voltage Control, 50 % Duty Cycle, 0 to +70 degC, 16-pin SOIC (DW), Green (RoHS & no Sb/Br); PartNumber: UC3825ADWTRG4; Manufacturer: Texas Instruments; Duty Cycle(Max)(%): 50; Frequency(Max)(kHz): 1000; Rating: Catalog; Regulated Outputs(#): 2; Topology: Boost, Buck, Flyback, Forward, Full-Bridge, Half-Bridge, Push-Pull; UVLO Thresholds On/Off(V): 16/10; DatasheetVersion: SLUS334E; PackageVersion: revG, Jan-2011; PackageReference: DW16; PackageDescription: 16-Pin Small Outline Integrated Circuit, 10.3 x 7.5 mm, Pitch 1.27 mm Pitch; Supplier 1: Digi-Key; Supplier Part Number 1: UC3825ADWTRG4-ND; Supplier 2: Newark; Supplier Part Number 2: 71J8465; Supplier 3: Mouser; Supplier Part Number 3: 595-UC3825ADWTRG4; Control Method: Current, Voltage; Eco-Plan: Green (RoHS & no Sb/Br); SubFamily: PWM Controller; Mounting Technology: Surface Mount; Code_JEDEC: MS-013-AA; ComponentLink1Description: Datasheet; ComponentLink1URL: http://www.ti.com/general/docs/lit/getliterature.tsp?genericPartNumber=UC3825A&fileType=pdf
footprint DW16_N (SOIC, 16-Leads, Body 10.3x7.5mm, Pitch 1.27mm, IPC Medium Density)
footprint DW16_L (SOIC, 16-Leads, Body 10.3x7.5mm, Pitch 1.27mm, IPC High Density)
footprint DW16_M (SOIC, 16-Leads, Body 10.3x7.5mm, Pitch 1.27mm, IPC Low Density)
pins: 1 INV (in) "Inverting input to the error amplifier", 2 NI (in) "Non-inverting input to the error amplifier", 3 EAOUT (out) "Output of the error amplifier for compensation", 4 CLK/LEB (io) "Output of the internal oscillator", 5 RT "Timing resistor connection pin for oscillator frequency programming", 6 CT "Timing capacitor connection pin for oscillator frequency programming. The timing capacitor should be connected to the device ground using minimal trace length.", 7 RAMP (in) "Non-inverting input to the PWM comparator with 1.25-V internal input offset. In voltage mode operation, this serves as the input voltage feed-forward function by using the CT ramp. In peak current mode operation, this serves (See Datasheet)", 8 SS (in) "Soft-start input pin which also doubles as the maximum duty cycle clamp.", 9 ILIM (in) "Input to the current limit comparator", 10 GND (power) "Analog ground return pin", 11 OUTA (out) "High current totem pole output A of the on-chip drive stage.", 12 PGND (power) "Ground return pin for the output driver stage", 13 VC (power) "Power supply pin for the output stage. This pin should be bypassed with a 0.1-uF monolithic ceramic low ESL capacitor with minimal trace lengths.", 14 OUTB (out) "High current totem pole output B of the on-chip drive stage.", 15 VCC (power) "Power supply pin for the device. This pin should be bypassed with a 0.1-uF monolithic ceramic low ESL capacitor with minimal trace lengths", 16 VREF (out) "5.1-V reference. For stability, the reference should be bypassed with a 0.1-uF monolithic ceramic low ESL capacitor and minimal trace length to the ground plane."

## UC3825AN
designator U?
High-Speed PWM Controller with Current, Voltage Control, 50 % Duty Cycle, 0 to +70 degC, 16-pin PDIP (N), Green (RoHS & no Sb/Br); PartNumber: UC3825AN; Manufacturer: Texas Instruments; Duty Cycle(Max)(%): 50; Frequency(Max)(kHz): 1000; Rating: Catalog; Regulated Outputs(#): 2; Topology: Boost, Buck, Flyback, Forward, Full-Bridge, Half-Bridge, Push-Pull; UVLO Thresholds On/Off(V): 16/10; DatasheetVersion: SLUS334E; PackageVersion: revE, Dec-2002; PackageReference: N16; PackageDescription: 16-Pin Plastic Dual-In-Line Package, Row Spacing 7.62 mm, Pitch 2.54 mm; Supplier 1: Digi-Key; Supplier Part Number 1: 296-11267-5-ND; Supplier 2: Farnell; Supplier Part Number 2: 1212379; Supplier 3: Newark; Supplier Part Number 3: 68K1140; Supplier 4: Mouser; Supplier Part Number 4: 595-UC3825AN; Control Method: Current, Voltage; Eco-Plan: Green (RoHS & no Sb/Br); SubFamily: PWM Controller; Mounting Technology: Through Hole; Code_JEDEC: MS-001*; ComponentLink1Description: Datasheet; ComponentLink1URL: http://www.ti.com/general/docs/lit/getliterature.tsp?genericPartNumber=UC3825A&fileType=pdf
footprint N16 (DIP, 16-Leads, Row Spacing 7.62mm, Pitch 2.54mm, Body 19.3x6.4mm)
pins: 1 INV (in) "Inverting input to the error amplifier", 2 NI (in) "Non-inverting input to the error amplifier", 3 EAOUT (out) "Output of the error amplifier for compensation", 4 CLK/LEB (io) "Output of the internal oscillator", 5 RT "Timing resistor connection pin for oscillator frequency programming", 6 CT "Timing capacitor connection pin for oscillator frequency programming. The timing capacitor should be connected to the device ground using minimal trace length.", 7 RAMP (in) "Non-inverting input to the PWM comparator with 1.25-V internal input offset. In voltage mode operation, this serves as the input voltage feed-forward function by using the CT ramp. In peak current mode operation, this serves (See Datasheet)", 8 SS (in) "Soft-start input pin which also doubles as the maximum duty cycle clamp.", 9 ILIM (in) "Input to the current limit comparator", 10 GND (power) "Analog ground return pin", 11 OUTA (out) "High current totem pole output A of the on-chip drive stage.", 12 PGND (power) "Ground return pin for the output driver stage", 13 VC (power) "Power supply pin for the output stage. This pin should be bypassed with a 0.1-uF monolithic ceramic low ESL capacitor with minimal trace lengths.", 14 OUTB (out) "High current totem pole output B of the on-chip drive stage.", 15 VCC (power) "Power supply pin for the device. This pin should be bypassed with a 0.1-uF monolithic ceramic low ESL capacitor with minimal trace lengths", 16 VREF (out) "5.1-V reference. For stability, the reference should be bypassed with a 0.1-uF monolithic ceramic low ESL capacitor and minimal trace length to the ground plane."

## UC3825ANG4
designator U?
High-Speed PWM Controller with Current, Voltage Control, 50 % Duty Cycle, 0 to +70 degC, 16-pin PDIP (N), Green (RoHS & no Sb/Br); PartNumber: UC3825ANG4; Manufacturer: Texas Instruments; Duty Cycle(Max)(%): 50; Frequency(Max)(kHz): 1000; Rating: Catalog; Regulated Outputs(#): 2; Topology: Boost, Buck, Flyback, Forward, Full-Bridge, Half-Bridge, Push-Pull; UVLO Thresholds On/Off(V): 16/10; DatasheetVersion: SLUS334E; PackageVersion: revE, Dec-2002; PackageReference: N16; PackageDescription: 16-Pin Plastic Dual-In-Line Package, Row Spacing 7.62 mm, Pitch 2.54 mm; Supplier 1: Digi-Key; Supplier Part Number 1: UC3825ANG4-ND; Supplier 2: Newark; Supplier Part Number 2: 20M5951; Supplier 3: Mouser; Supplier Part Number 3: 595-UC3825ANG4; Control Method: Current, Voltage; Eco-Plan: Green (RoHS & no Sb/Br); SubFamily: PWM Controller; Mounting Technology: Through Hole; Code_JEDEC: MS-001*; ComponentLink1Description: Datasheet; ComponentLink1URL: http://www.ti.com/general/docs/lit/getliterature.tsp?genericPartNumber=UC3825A&fileType=pdf
footprint N16 (DIP, 16-Leads, Row Spacing 7.62mm, Pitch 2.54mm, Body 19.3x6.4mm)
pins: 1 INV (in) "Inverting input to the error amplifier", 2 NI (in) "Non-inverting input to the error amplifier", 3 EAOUT (out) "Output of the error amplifier for compensation", 4 CLK/LEB (io) "Output of the internal oscillator", 5 RT "Timing resistor connection pin for oscillator frequency programming", 6 CT "Timing capacitor connection pin for oscillator frequency programming. The timing capacitor should be connected to the device ground using minimal trace length.", 7 RAMP (in) "Non-inverting input to the PWM comparator with 1.25-V internal input offset. In voltage mode operation, this serves as the input voltage feed-forward function by using the CT ramp. In peak current mode operation, this serves (See Datasheet)", 8 SS (in) "Soft-start input pin which also doubles as the maximum duty cycle clamp.", 9 ILIM (in) "Input to the current limit comparator", 10 GND (power) "Analog ground return pin", 11 OUTA (out) "High current totem pole output A of the on-chip drive stage.", 12 PGND (power) "Ground return pin for the output driver stage", 13 VC (power) "Power supply pin for the output stage. This pin should be bypassed with a 0.1-uF monolithic ceramic low ESL capacitor with minimal trace lengths.", 14 OUTB (out) "High current totem pole output B of the on-chip drive stage.", 15 VCC (power) "Power supply pin for the device. This pin should be bypassed with a 0.1-uF monolithic ceramic low ESL capacitor with minimal trace lengths", 16 VREF (out) "5.1-V reference. For stability, the reference should be bypassed with a 0.1-uF monolithic ceramic low ESL capacitor and minimal trace length to the ground plane."

## UC3825AQ
designator U?
High-Speed PWM Controller with Current, Voltage Control, 50 % Duty Cycle, 0 to +70 degC, 20-pin PLCC (FN), Green (RoHS & no Sb/Br); PartNumber: UC3825AQ; Manufacturer: Texas Instruments; Duty Cycle(Max)(%): 50; Frequency(Max)(kHz): 1000; Rating: Catalog; Regulated Outputs(#): 2; Topology: Boost, Buck, Flyback, Forward, Full-Bridge, Half-Bridge, Push-Pull; UVLO Thresholds On/Off(V): 16/10; DatasheetVersion: SLUS334E; PackageVersion: revB, Mar-1995; PackageReference: FN20; PackageDescription: 20-Pin Plastic Leaded Chip Carrier, 1.27 mm Pitch; Supplier 1: Digi-Key; Supplier Part Number 1: 296-11268-5-ND; Supplier 2: Newark; Supplier Part Number 2: 77C3249; Supplier 3: Mouser; Supplier Part Number 3: 595-UC3825AQ; Control Method: Current, Voltage; Eco-Plan: Green (RoHS & no Sb/Br); SubFamily: PWM Controller; Mounting Technology: Surface Mount; Code_JEDEC: MS-018; ComponentLink1Description: Datasheet; ComponentLink1URL: http://www.ti.com/general/docs/lit/getliterature.tsp?genericPartNumber=UC3825A&fileType=pdf
footprint FN20_N (Leaded Chip Carrier, 20-Leads, Body 9x9mm, Pitch 1.27mm, IPC Medium Density)
footprint FN20_L (Leaded Chip Carrier, 20-Leads, Body 9x9mm, Pitch 1.27mm, IPC High Density)
footprint FN20_M (Leaded Chip Carrier, 20-Leads, Body 9x9mm, Pitch 1.27mm, IPC Low Density)
pins: 1 NC "no connection", 2 INV (in) "Inverting input to the error amplifier", 3 NI (in) "Non-inverting input to the error amplifier", 4 EAOUT (out) "Output of the error amplifier for compensation", 5 CLK/LEB (io) "Output of the internal oscillator", 6 NC "no connection", 7 RT "Timing resistor connection pin for oscillator frequency programming", 8 CT "Timing capacitor connection pin for oscillator frequency programming. The timing capacitor should be connected to the device ground using minimal trace length.", 9 RAMP (in) "Non-inverting input to the PWM comparator with 1.25-V internal input offset. In voltage mode operation, this serves as the input voltage feed-forward function by using the CT ramp. In peak current mode operation, this serves (See Datasheet)", 10 SS (in) "Soft-start input pin which also doubles as the maximum duty cycle clamp.", 11 NC "no connection", 12 ILIM (in) "Input to the current limit comparator", 13 GND (power) "Analog ground return pin", 14 OUTA (out) "High current totem pole output A of the on-chip drive stage.", 15 PGND (power) "Ground return pin for the output driver stage", 16 NC "no connection", 17 VC (power) "Power supply pin for the output stage. This pin should be bypassed with a 0.1-uF monolithic ceramic low ESL capacitor with minimal trace lengths.", 18 OUTB (out) "High current totem pole output B of the on-chip drive stage.", 19 VCC (power) "Power supply pin for the device. This pin should be bypassed with a 0.1-uF monolithic ceramic low ESL capacitor with minimal trace lengths", 20 VREF (out) "5.1-V reference. For stability, the reference should be bypassed with a 0.1-uF monolithic ceramic low ESL capacitor and minimal trace length to the ground plane."

## UC3825AQG3
designator U?
High-Speed PWM Controller with Current, Voltage Control, 50 % Duty Cycle, 0 to +70 degC, 20-pin PLCC (FN), Green (RoHS & no Sb/Br); PartNumber: UC3825AQG3; Manufacturer: Texas Instruments; Duty Cycle(Max)(%): 50; Frequency(Max)(kHz): 1000; Rating: Catalog; Regulated Outputs(#): 2; Topology: Boost, Buck, Flyback, Forward, Full-Bridge, Half-Bridge, Push-Pull; UVLO Thresholds On/Off(V): 16/10; DatasheetVersion: SLUS334E; PackageVersion: revB, Mar-1995; PackageReference: FN20; PackageDescription: 20-Pin Plastic Leaded Chip Carrier, 1.27 mm Pitch; Supplier 1: Digi-Key; Supplier Part Number 1: UC3825AQG3-ND; Supplier 2: Newark; Supplier Part Number 2: 70K6010; Supplier 3: Mouser; Supplier Part Number 3: 595-UC3825AQG3; Control Method: Current,Voltage; Eco-Plan: Green (RoHS & no Sb/Br); SubFamily: PWM Controller; Mounting Technology: Surface Mount; Code_JEDEC: MS-018; ComponentLink1Description: Datasheet; ComponentLink1URL: http://www.ti.com/general/docs/lit/getliterature.tsp?genericPartNumber=UC3825A&fileType=pdf
footprint FN20_N (Leaded Chip Carrier, 20-Leads, Body 9x9mm, Pitch 1.27mm, IPC Medium Density)
footprint FN20_L (Leaded Chip Carrier, 20-Leads, Body 9x9mm, Pitch 1.27mm, IPC High Density)
footprint FN20_M (Leaded Chip Carrier, 20-Leads, Body 9x9mm, Pitch 1.27mm, IPC Low Density)
pins: 1 NC "no connection", 2 INV (in) "Inverting input to the error amplifier", 3 NI (in) "Non-inverting input to the error amplifier", 4 EAOUT (out) "Output of the error amplifier for compensation", 5 CLK/LEB (io) "Output of the internal oscillator", 6 NC "no connection", 7 RT "Timing resistor connection pin for oscillator frequency programming", 8 CT "Timing capacitor connection pin for oscillator frequency programming. The timing capacitor should be connected to the device ground using minimal trace length.", 9 RAMP (in) "Non-inverting input to the PWM comparator with 1.25-V internal input offset. In voltage mode operation, this serves as the input voltage feed-forward function by using the CT ramp. In peak current mode operation, this serves (See Datasheet)", 10 SS (in) "Soft-start input pin which also doubles as the maximum duty cycle clamp.", 11 NC "no connection", 12 ILIM (in) "Input to the current limit comparator", 13 GND (power) "Analog ground return pin", 14 OUTA (out) "High current totem pole output A of the on-chip drive stage.", 15 PGND (power) "Ground return pin for the output driver stage", 16 NC "no connection", 17 VC (power) "Power supply pin for the output stage. This pin should be bypassed with a 0.1-uF monolithic ceramic low ESL capacitor with minimal trace lengths.", 18 OUTB (out) "High current totem pole output B of the on-chip drive stage.", 19 VCC (power) "Power supply pin for the device. This pin should be bypassed with a 0.1-uF monolithic ceramic low ESL capacitor with minimal trace lengths", 20 VREF (out) "5.1-V reference. For stability, the reference should be bypassed with a 0.1-uF monolithic ceramic low ESL capacitor and minimal trace length to the ground plane."

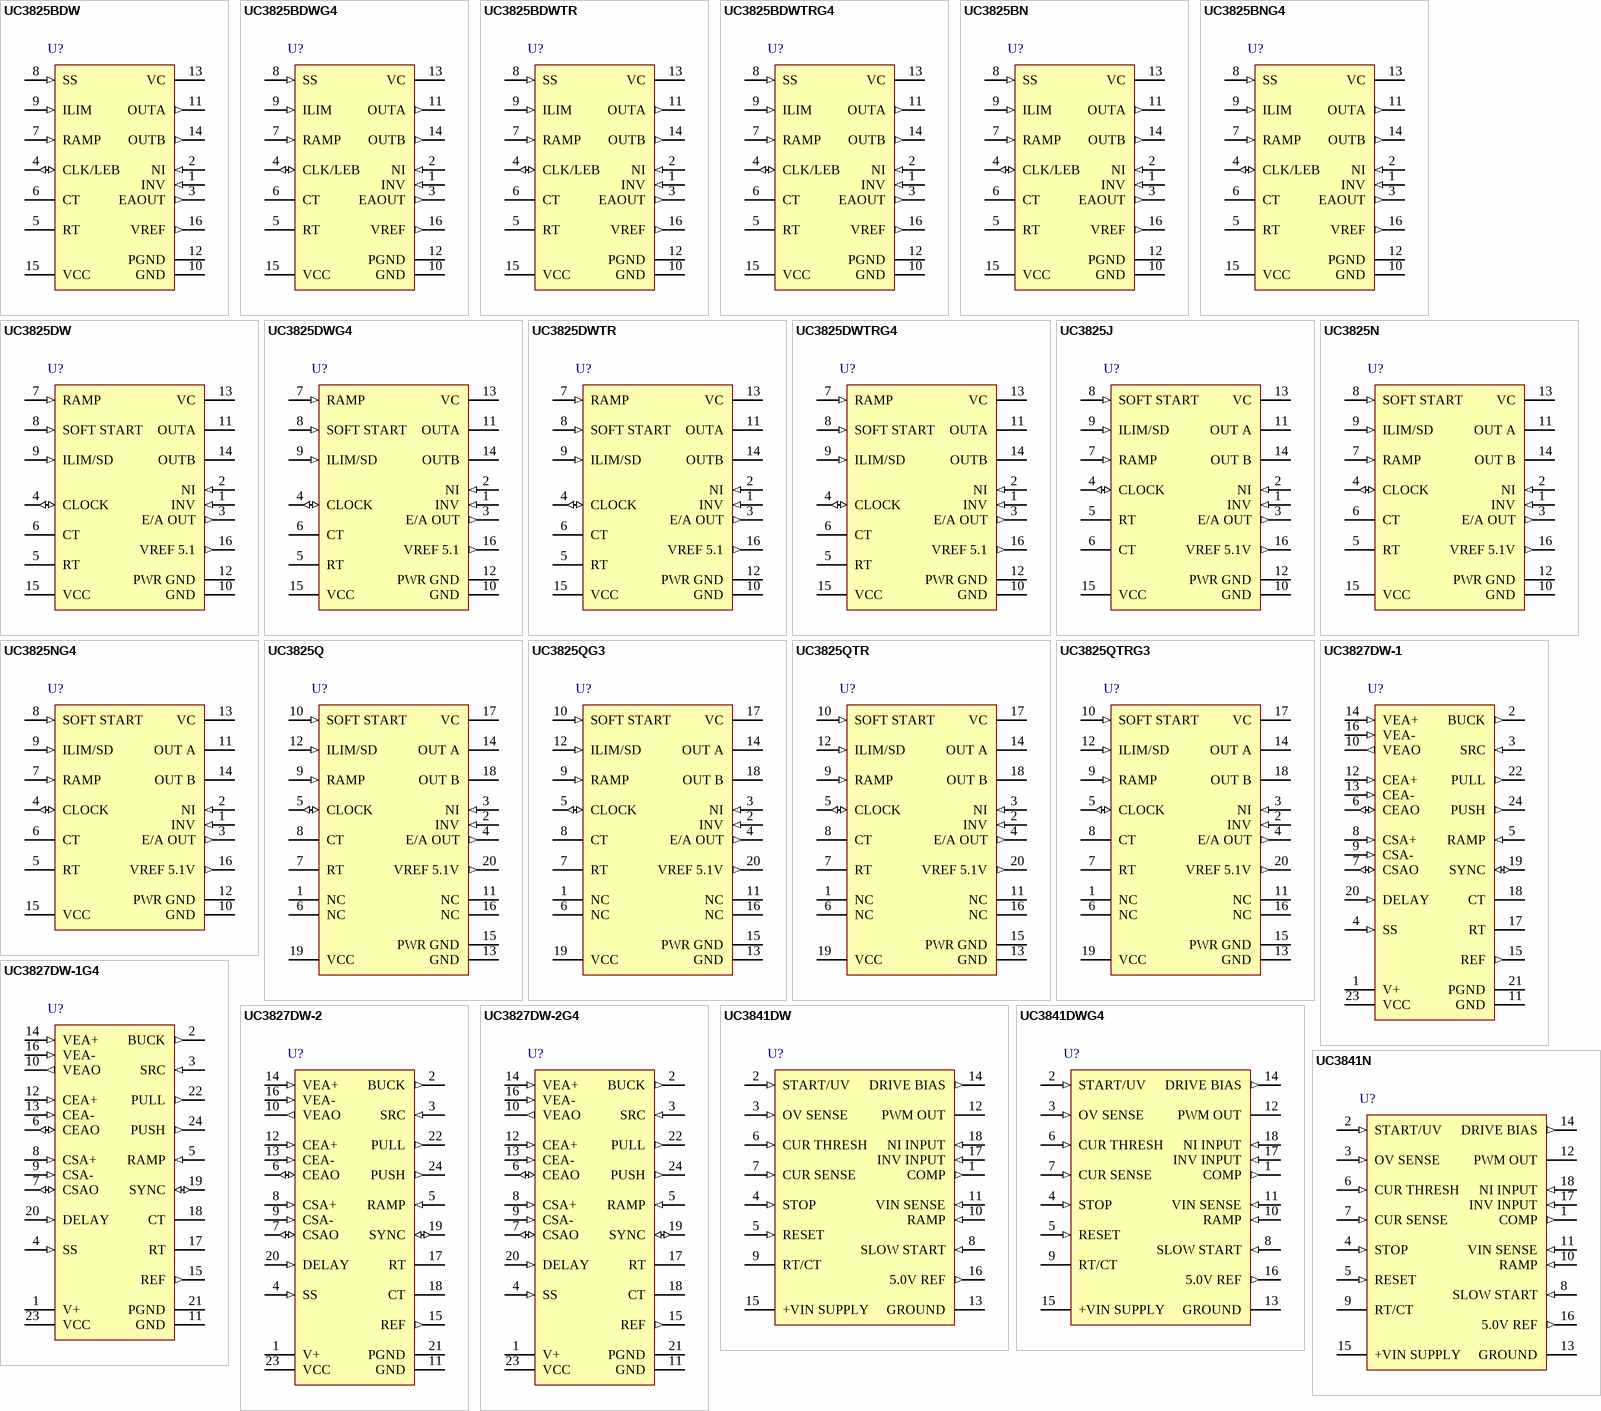
[diagram p30: symbols UC3825BDW to UC3841N]